# EAGLE library part ESPR-DEVELOPER (library espr-developer)
WiFi module - ESP-WROOM-02
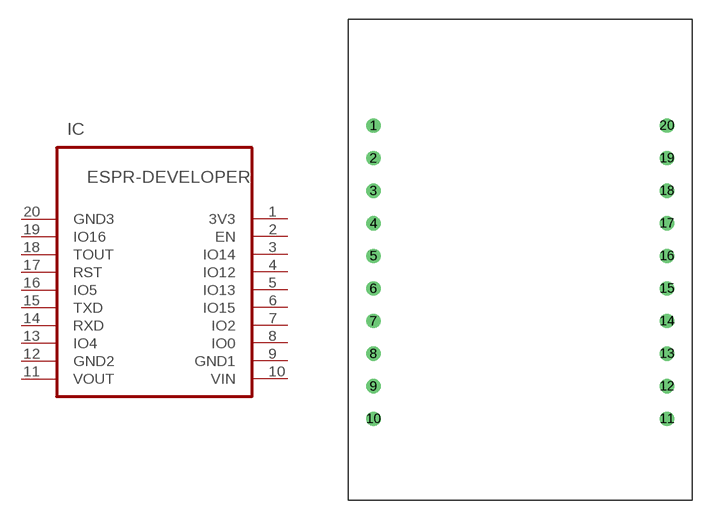
[diagram p0: symbol with the pads of ESPR-DEVELOPER; footprint ESPR-DEVELOPER]

Designator prefix IC

## ESPR-DEVELOPER  [ESPR-DEVELOPER]
1  3V3  pwr
2  EN
3  IO14
4  IO12
5  IO13
6  IO15
7  IO2
8  IO0
9  GND1  pwr
10  VIN  pwr
11  VOUT  pwr
12  GND2  pwr
13  IO4
14  RXD
15  TXD
16  IO5  oc
17  RST
18  TOUT
19  IO16
20  GND3  pwr

## Footprint ESPR-DEVELOPER (pad centres in mm)
Front Face Top
drill 0.6: 1 -11.43,11.43; 2 -11.43,8.89; 3 -11.43,6.35; 4 -11.43,3.81; 5 -11.43,1.27; 6 -11.43,-1.27; 7 -11.43,-3.81; 8 -11.43,-6.35; 9 -11.43,-8.89; 10 -11.43,-11.43; 11 11.43,-11.43; 12 11.43,-8.89; 13 11.43,-6.35; 14 11.43,-3.81; 15 11.43,-1.27; 16 11.43,1.27; 17 11.43,3.81; 18 11.43,6.35; 19 11.43,8.89; 20 11.43,11.43